# Altium footprint library resistor.PcbLib: 49 footprints (part 4 of 4)
Each footprint in its own frame and in the unit in brackets; x right, y up, seen from the top. Pads: shape width x height; smd on the part's side, far side on the other; paste and mask are expansions set on the pad; w line width, h text height; cw(c..) or ccw(c..) is an arc to the next point about the centre after c.
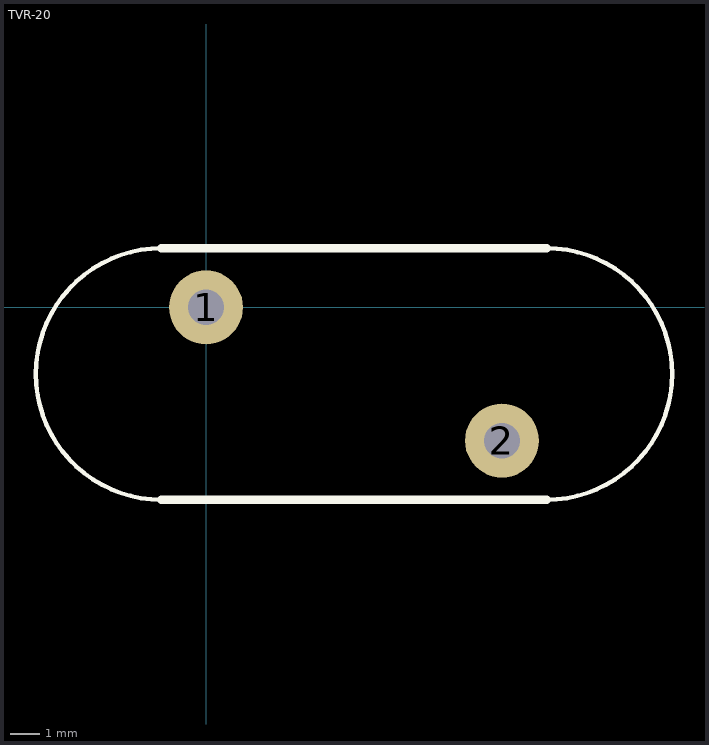
[diagram p3: the footprint, top view; thin cyan lines are the x and y axes]

## TVR-20 [mm]
pads (2):
  round 2.5 hole 1.2: 1(0,0) 2(10,-4.5)
Top Overlay:
  lines w0.15: -1.5,-6.5 cw(c-1.5,-2.25) -1.5,2 ; 11.5,-6.5 ccw(c11.5,-2.25) 11.5,2
  lines w0.3: -1.5,-6.5 11.5,-6.5 ; -1.5,2 11.5,2
3D body "User Library-S20K275.step": height 24.75, standoff -6.5, extent -5.575,-4.785 15.925,0.425